# EAGLE library part GPS_M20050-1 (library RTR)
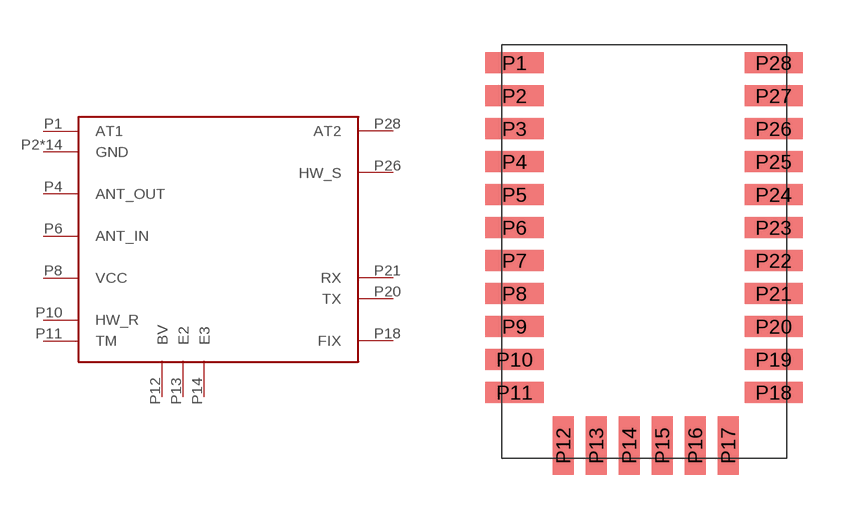
[diagram p7: symbol with the pads of M20050-1_GPS; footprint M20050-1_GPS]

Designator prefix A

## GPS_M20050-1  [M20050-1_GPS]
P1  AT1
P2  GND
P3  GND
P4  ANT_OUT
P5  GND
P6  ANT_IN
P7  GND
P8  VCC
P9  GND
P10  HW_R
P11  TM
P12  BV
P13  E2
P14  E3
P15  GND
P16  GND
P17  GND
P18  FIX
P19  GND
P20  TX
P21  RX
P22  GND
P23  GND
P24  GND
P25  GND
P26  HW_S
P27  GND
P28  AT2

## Footprint M20050-1_GPS (pad centres in mm)
smd 1.94 x 0.7: P1 -4.32,6.3; P2 -4.32,5.2; P3 -4.32,4.1; P4 -4.32,3; P5 -4.32,1.9; P6 -4.32,0.8; P7 -4.32,-0.3; P8 -4.32,-1.4; P9 -4.32,-2.5; P10 -4.32,-3.6; P11 -4.32,-4.7; P18 4.32,-4.7; P19 4.32,-3.6; P20 4.32,-2.5; P21 4.32,-1.4; P22 4.32,-0.3; P23 4.32,0.8; P24 4.32,1.9; P25 4.32,3; P26 4.32,4.1; P27 4.32,5.2; P28 4.32,6.3
smd 0.7 x 1.94: P12 -2.7,-6.47; P13 -1.6,-6.47; P14 -0.5,-6.47; P15 0.6,-6.47; P16 1.7,-6.47; P17 2.8,-6.47